# EAGLE library part RESISTOR-X8 (library cape)
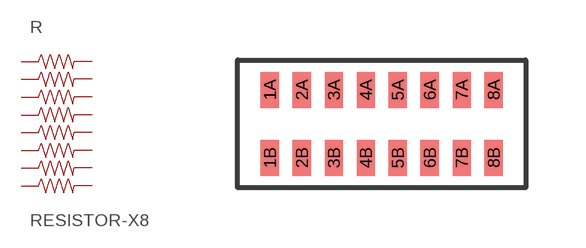
[diagram p6: symbol with the pads of R0603-X8; footprint R0603-X8]

Designator prefix R

## RESISTOR-X80603  [R0603-X8]
1A  1B  pas
1B  1A  pas
2A  2B  pas
2B  2A  pas
3A  3B  pas
3B  3A  pas
4A  4B  pas
4B  4A  pas
5A  5B  pas
5B  5A  pas
6A  6B  pas
6B  6A  pas
7A  7B  pas
7B  7A  pas
8A  8B  pas
8B  8A  pas

## Footprint R0603-X8 (pad centres in mm)
smd 0.45 x 0.9: 1A -2.8,0.85; 1B -2.8,-0.85; 2A -2,0.85; 2B -2,-0.85; 3A -1.2,0.85; 3B -1.2,-0.85; 4A -0.4,0.85; 4B -0.4,-0.85; 5A 0.4,0.85; 5B 0.4,-0.85; 6A 1.2,0.85; 6B 1.2,-0.85; 7A 2,0.85; 7B 2,-0.85; 8A 2.8,0.85; 8B 2.8,-0.85